# Altium footprint library PcbLib1.PcbLib: 9 footprints
Each footprint in its own frame and in the unit in brackets; x right, y up, seen from the top. Pads: shape width x height; smd on the part's side, far side on the other; paste and mask are expansions set on the pad; w line width, h text height; cw(c..) or ccw(c..) is an arc to the next point about the centre after c.
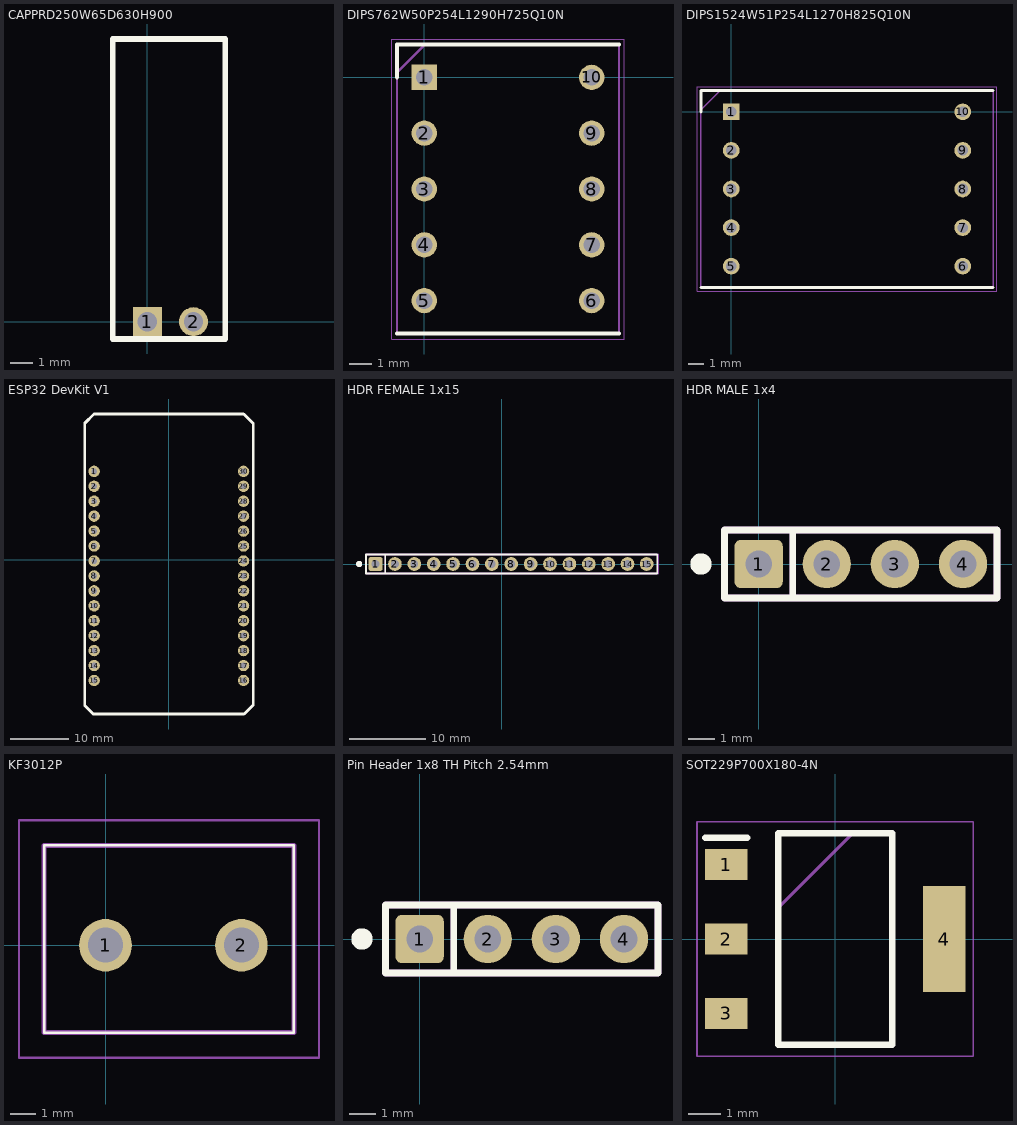
[diagram p0: the footprints below, top view; thin cyan lines are the x and y axes]

## CAPPRD250W65D630H900 [mm]
pads (2):
  rect 1.275x1.275 hole 0.85: 1(0,0)
  round 1.275 hole 0.85: 2(2.032,0)
Top Overlay:
  lines w0.254: -1.524,-0.762 3.429,-0.762 3.429,12.446 -1.524,12.446 -1.524,-0.762
3D body "cap_el_horizontal_d5_h11_pitch2_w0.5.stp": height 5.1, standoff -3, extent -1.524,-0.284 3.486,12.476

## DIPS762W50P254L1290H725Q10N [mm]
pads (10):
  rect 1.15x1.15 hole 0.75: 1(0,0)
  round 1.15 hole 0.75: 2(0,-2.54) 3(0,-5.08) 4(0,-7.62) 5(0,-10.16) 6(7.62,-10.16) 7(7.62,-7.62) 8(7.62,-5.08) 9(7.62,-2.54) 10(7.62,0)
Top Overlay:
  lines w0.2: -1.24,-11.655 8.86,-11.655 ; -1.24,0 -1.24,1.495 8.86,1.495
Mechanical 13:
  lines w0.1: -1.24,0.225 0.03,1.495 ; -1.24,-11.655 -1.24,1.495 8.86,1.495 8.86,-11.655 -1.24,-11.655
Mechanical 15:
  lines w0.05: -1.49,-11.905 -1.49,1.745 9.11,1.745 9.11,-11.905 -1.49,-11.905

## DIPS1524W51P254L1270H825Q10N [mm]
pads (10):
  rect 1.1x1.1 hole 0.7: 1(0,0)
  round 1.1 hole 0.7: 2(0,-2.54) 3(0,-5.08) 4(0,-7.62) 5(0,-10.16) 6(15.24,-10.16) 7(15.24,-7.62) 8(15.24,-5.08) 9(15.24,-2.54) 10(15.24,0)
Top Overlay:
  lines w0.2: -2.005,-11.555 17.245,-11.555 ; -2.005,0 -2.005,1.395 17.245,1.395
Mechanical 13:
  lines w0.1: -2.005,0.125 -0.735,1.395 ; -2.005,-11.555 17.245,-11.555 17.245,1.395 -2.005,1.395 -2.005,-11.555
Mechanical 15:
  lines w0.05: -2.255,-11.805 17.495,-11.805 17.495,1.645 -2.255,1.645 -2.255,-11.805
3D body "LED_Display_LTS-547AG.step": height 7, standoff -3, extent -1.255,-11.28 16.395,1.12

## ESP32 DevKit V1 [mm]
pads (30):
  round 1.93 / inner round 1.524 / far side round 1.93 hole 1: 1(-12.7,15) 2(-12.7,12.46) 3(-12.7,9.92) 4(-12.7,7.38) 5(-12.7,4.84) 6(-12.7,2.3) 7(-12.7,-0.24) 8(-12.7,-2.78) 9(-12.7,-5.32) 10(-12.7,-7.86) 11(-12.7,-10.4) 12(-12.7,-12.94) 13(-12.7,-15.48) 14(-12.7,-18.02) 15(-12.7,-20.56) 16(12.7,-20.56) 17(12.7,-18.02) 18(12.7,-15.48) 19(12.7,-12.94) 20(12.7,-10.4) 21(12.7,-7.86) 22(12.7,-5.32) 23(12.7,-2.78) 24(12.7,-0.24) 25(12.7,2.3) 26(12.7,4.84) 27(12.7,7.38) 28(12.7,9.92) 29(12.7,12.46) 30(12.7,15)
Top Overlay:
  lines w0.5: -14.31,-24.81 -12.86,-26.26 12.8,-26.26 14.35,-24.71 14.35,23.12 12.72,24.75 -12.72,24.75 -14.31,23.16 -14.31,-24.81
3D body "ESP-32_v1.STEP": height 13.2, standoff 0.8, extent -14.22,-26.09 14.28,24.84
3D body "zl305-15s_p2-54_l38-6_w2-5_h5.stp": height 5, standoff -3, extent 11.47,-22.098 13.97,16.502
3D body "zl305-15s_p2-54_l38-6_w2-5_h5.stp": height 3, standoff -5, extent -13.95,-22.08 -11.45,16.52

## HDR FEMALE 1x15 [mm]
pads (15):
  rrect25% 1.8x1.8 hole 1: 1(-16.51,0)
  round 1.8 hole 1: 2(-13.97,0) 3(-11.43,0) 4(-8.89,0) 5(-6.35,0) 6(-3.81,0) 7(-1.27,0) 8(1.27,0) 9(3.81,0) 10(6.35,0) 11(8.89,0) 12(11.43,0) 13(13.97,0) 14(16.51,0) 15(19.01,0)
Top Overlay:
  circle w0.5: c-18.66,0 r0.15
  lines w0.254: -15.24,-1.27 -15.24,1.27 -17.78,1.27 ; -17.78,1.27 -17.78,-1.27 20.4,-1.27 20.4,1.27 -17.78,1.27
Mechanical 3:
  lines w0.254: -15.24,-1.27 -15.24,1.27 -17.78,1.27 ; -17.78,1.27 -17.78,-1.27 20.5,-1.27 20.5,1.27 -17.78,1.27
3D body "female_header_a-bl254-eg-g03d.stp": height 8.5, standoff -3.2, extent 12.565,-1.4 20.435,1.1
3D body "female_header_a-bl254-eg-g03d.stp": height 8.5, standoff -3.2, extent 4.865,-1.4 12.735,1.1
3D body "female_header_a-bl254-eg-g03d.stp": height 8.5, standoff -3.2, extent -2.735,-1.4 5.135,1.1
3D body "female_header_a-bl254-eg-g03d.stp": height 8.5, standoff -3.2, extent -10.235,-1.4 -2.365,1.1
3D body "female_header_a-bl254-eg-g03d.stp": height 8.5, standoff -3.2, extent -17.8,-1.4 -9.93,1.1

## HDR MALE 1x4 [mm] "PinHeader 1x4 TH Pitch 2.54mm"
height 9.5
pads (4):
  rrect25% 1.8x1.8 hole 1: 1(0,0)
  round 1.8 hole 1: 2(2.54,0) 3(5.08,0) 4(7.62,0)
Top Overlay:
  circle w0.5: c-2.15,0 r0.15
  lines w0.254: 1.27,-1.27 1.27,1.27 -1.27,1.27 ; -1.27,1.27 -1.27,-1.27 8.89,-1.27 8.89,1.27 -1.27,1.27
Mechanical 3:
  lines w0.254: 1.27,-1.27 1.27,1.27 -1.27,1.27 ; -1.27,1.27 -1.27,-1.27 8.89,-1.27 8.89,1.27 -1.27,1.27
3D body "2.54 mm crooked Male Header Dupont Pins, 90°, 1X4 v1.step": height 5.02, standoff -2.99, extent -1.27,-1.27 8.89,6.12

## KF3012P [mm]
pads (2):
  round 2.1 hole 1.4: 1(0,0) 2(5.44,0)
Top Overlay:
  lines w0.1: -2.46,-3.5 7.54,-3.5 7.54,-1.625 7.54,2.125 7.54,4 -2.46,4 -2.46,-3.5
Mechanical 13:
  lines w0.2: -2.46,-3.5 7.54,-3.5 7.54,4 -2.46,4 -2.46,-3.5
Mechanical 15:
  lines w0.1: -3.46,-4.5 8.54,-4.5 8.54,5 -3.46,5 -3.46,-4.5
3D body "TBlock2vias - KRE.STEP": height 14.8, standoff -3.2, extent -2.206,-4.431 7.794,5.969

## Pin Header 1x8 TH Pitch 2.54mm [mm] "PinHeader 1x8 TH Pitch 2.54mm"
height 9.5
pads (4):
  rrect25% 1.8x1.8 hole 1: 1(0,0)
  round 1.8 hole 1: 2(2.54,0) 3(5.08,0) 4(7.62,0)
Top Overlay:
  circle w0.5: c-2.15,0 r0.15
  lines w0.254: 1.27,-1.27 1.27,1.27 -1.27,1.27 ; -1.27,1.27 -1.27,-1.27 8.89,-1.27 8.89,1.27 -1.27,1.27
Mechanical 3:
  lines w0.254: 1.27,-1.27 1.27,1.27 -1.27,1.27 ; -1.27,1.27 -1.27,-1.27 8.89,-1.27 8.89,1.27 -1.27,1.27
3D body "MPU-6050-on-female-header.step": height 14.64, standoff -2.91, extent -1.41,-1.397 19.698,14.478

## SOT229P700X180-4N [mm]
pads (4):
  rect 1.3x0.95 smd: 1(-3.35,2.29) 2(-3.35,0) 3(-3.35,-2.29)
  rect 1.3x3.25 smd: 4(3.35,0)
Top Overlay:
  lines w0.2: -4,3.115 -2.7,3.115 ; -1.752,-3.252 -1.752,3.252 1.752,3.252 1.752,-3.252 -1.752,-3.252
Mechanical 13:
  lines w0.1: -1.752,0.962 0.538,3.252 ; -1.752,-3.252 -1.752,3.252 1.752,3.252 1.752,-3.252 -1.752,-3.252
Mechanical 15:
  lines w0.05: -4.25,-3.605 -4.25,3.605 4.25,3.605 4.25,-3.605 -4.25,-3.605
3D body "AMS1117-3.3.stp": height 1.8, standoff 0, extent -3.5,-3.253 3.5,3.253